# EAGLE library part MAX1167 (library jason_eagle6)
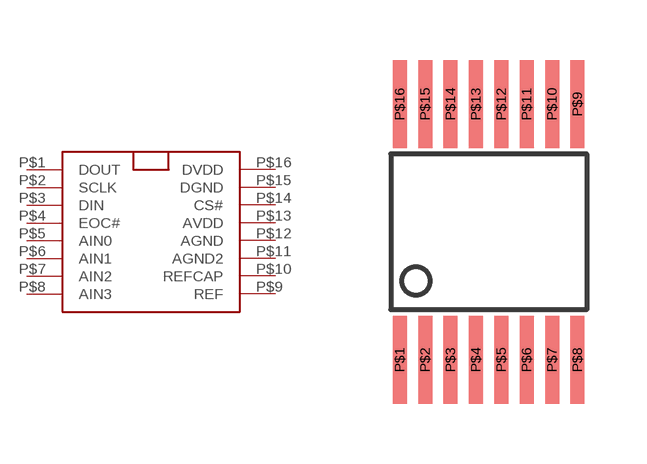
[diagram p24: symbol with the pads of SSOP16; footprint SSOP16]

Designator prefix -

## MAX1167  [SSOP16]
P$1  DOUT
P$2  SCLK
P$3  DIN
P$4  EOC#
P$5  AIN0
P$6  AIN1
P$7  AIN2
P$8  AIN3
P$9  REF
P$10  REFCAP
P$11  AGND2  pwr
P$12  AGND  pwr
P$13  AVDD  pwr
P$14  CS#
P$15  DGND  pwr
P$16  DVDD  pwr

## Footprint SSOP16 (pad centres in mm)
smd 0.35 x 2.2: P$1 -2.223,-3.2; P$2 -1.587,-3.2; P$3 -0.953,-3.2; P$4 -0.318,-3.2; P$5 0.318,-3.2; P$6 0.953,-3.2; P$7 1.587,-3.2; P$8 2.223,-3.2; P$9 2.223,3.2; P$10 1.587,3.2; P$11 0.953,3.2; P$12 0.318,3.2; P$13 -0.318,3.2; P$14 -0.953,3.2; P$15 -1.587,3.2; P$16 -2.223,3.2